# Altium schematic symbol library NRF52832-QFAA.SchLib: 1 symbol
Pins are listed as number, name and electrical type; pins without a type are passive.

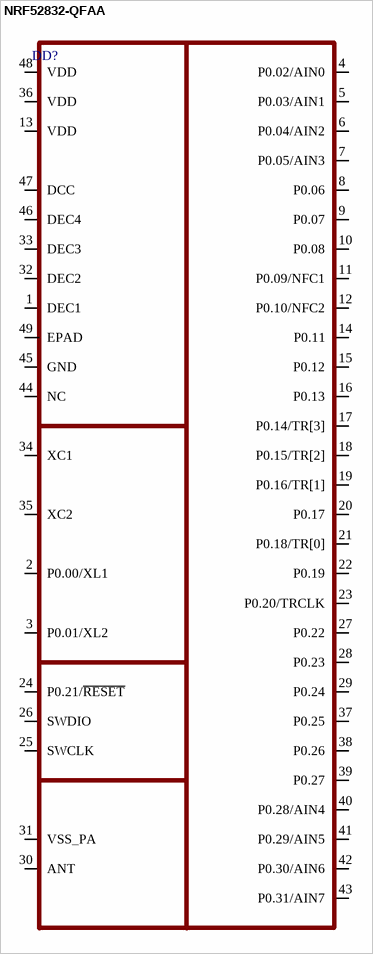
[diagram p0: symbol NRF52832-QFAA]

## NRF52832-QFAA
designator DD?
pins: 1 DEC1, 2 P0.00/XL1, 3 P0.01/XL2, 4 P0.02/AIN0, 5 P0.03/AIN1, 6 P0.04/AIN2, 7 P0.05/AIN3, 8 P0.06, 9 P0.07, 10 P0.08, 11 P0.09/NFC1, 12 P0.10/NFC2, 13 VDD, 14 P0.11, 15 P0.12, 16 P0.13, 17 P0.14/TR[3], 18 P0.15/TR[2], 19 P0.16/TR[1], 20 P0.17, 21 P0.18/TR[0], 22 P0.19, 23 P0.20/TRCLK, 24 P0.21/~{RESET}, 25 SWCLK, 26 SWDIO, 27 P0.22, 28 P0.23, 29 P0.24, 30 ANT, 31 VSS_PA, 32 DEC2, 33 DEC3, 34 XC1, 35 XC2, 36 VDD, 37 P0.25, 38 P0.26, 39 P0.27, 40 P0.28/AIN4, 41 P0.29/AIN5, 42 P0.30/AIN6, 43 P0.31/AIN7, 44 NC, 45 GND, 46 DEC4, 47 DCC, 48 VDD, 49 EPAD